# Altium schematic symbol library LM22677TJ-ADJ.SchLib: 1 symbol
Pins are listed as number, name and electrical type; pins without a type are passive.

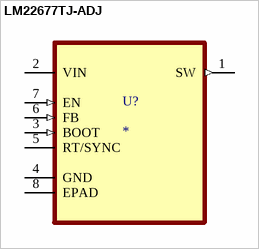
[diagram p0: symbol LM22677TJ-ADJ]

## LM22677TJ-ADJ
designator U?
3A SIMPLE SWITCHERÂ®, Step-Down Voltage Regulator; MP: LM22677TJ-ADJ; Package: None; Price: None; Value: *; Availability: Unavailable
footprint TO127P1435X210-8N
pins: 1 SW (out), 2 VIN (power), 3 BOOT (in), 4 GND, 5 RT/SYNC, 6 FB (in), 7 EN (in), 8 EPAD